# EAGLE library part LOGIC-4027 (library tidyeagle)
4027 Dual JK Flip Flop Datasheet: Texas Instruments CD4027B <http://www.farnell.com/datasheets/1536021.pdf> Application Notes: Supply: 3V - 18V To create a D flip flop, connect the K INPUT to the inversion of the J INPUT.
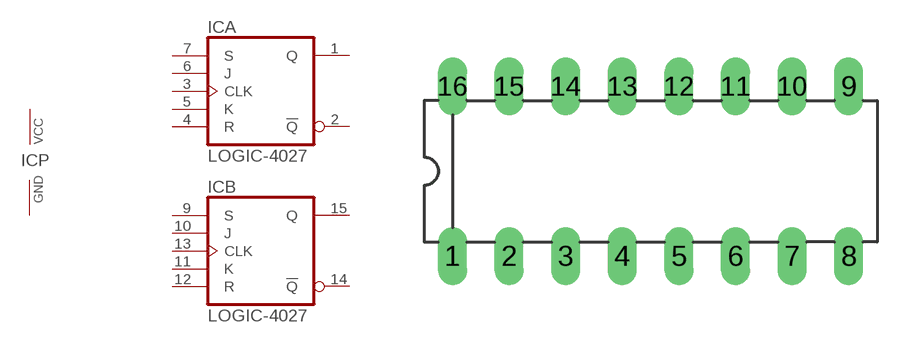
[diagram p24: symbol with the pads of DIL16-3; footprint DIL16-3]

Designator prefix IC; gates A=LOGIC-4027 B=LOGIC-4027 P=PWRN

## LOGIC-4027-DIL16  [DIL16-3]
1  A:Q  out
2  A:!Q  out
3  A:CLK  in
4  A:R  in
5  A:K  in
6  A:J  in
7  A:S  in
8  P:GND  pwr
9  B:S  in
10  B:J  in
11  B:K  in
12  B:R  in
13  B:CLK  in
14  B:!Q  out
15  B:Q  out
16  P:VCC  pwr

## Footprint DIL16-3 (pad centres in mm)
drill 0.8 long: 1 -8.89,-3.81; 2 -6.35,-3.81; 3 -3.81,-3.81; 4 -1.27,-3.81; 5 1.27,-3.81; 6 3.81,-3.81; 7 6.35,-3.81; 8 8.89,-3.81; 9 8.89,3.81; 10 6.35,3.81; 11 3.81,3.81; 12 1.27,3.81; 13 -1.27,3.81; 14 -3.81,3.81; 15 -6.35,3.81; 16 -8.89,3.81